# Altium integrated library SS12-E3_61T.IntLib: 1 symbol
Pins are listed as number, name and electrical type; pins without a type are passive.

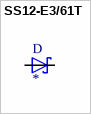
[diagram p0: symbol SS12-E3/61T]

## SS12-E3/61T
designator D
Diode Schottky 20V 1A Surface Mount DO-214AC _SMA_; MF: Vishay Semiconductor; MP: SS12-E3/61T; Package: DO-214 Vishay; Price: None; Availability: Unavailable; SnapEDA_Link: https://www.snapeda.com/parts/SS12-E3/61T/Vishay%20Semiconductor%20Diodes%20Division/view-part/53082/?ref=snap; Value: *
footprint DO214AC
pins: A, C